# Altium footprint library TO254P483X1010X2035-3P.PcbLib: 1 footprints
Each footprint in its own frame and in the unit in brackets; x right, y up, seen from the top. Pads: shape width x height; smd on the part's side, far side on the other; paste and mask are expansions set on the pad; w line width, h text height; cw(c..) or ccw(c..) is an arc to the next point about the centre after c.
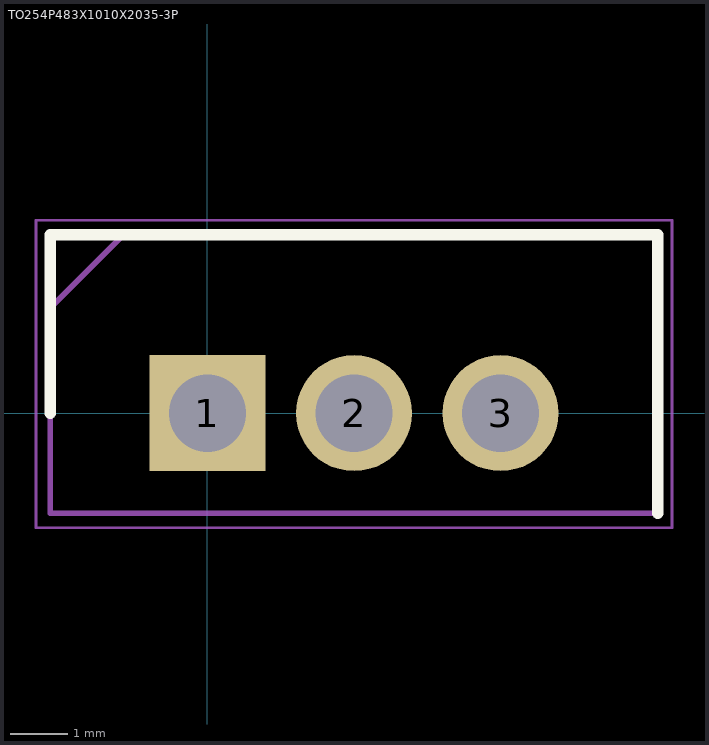
[diagram p0: the footprint, top view; thin cyan lines are the x and y axes]

## TO254P483X1010X2035-3P [mm]
pads (3):
  rect 2.01x2.01 / inner round 2.01 / far side rect 2.01x2.01 hole 1.34: 1(0,0)
  round 2.01 hole 1.34: 2(2.54,0) 3(5.08,0)
Top Overlay:
  lines w0.2: -2.725,0 -2.725,3.095 7.805,3.095 7.805,-1.735
Mechanical 15:
  lines w0.1: -2.725,1.825 -1.455,3.095 ; -2.725,-1.735 7.805,-1.735 7.805,3.095 -2.725,3.095 -2.725,-1.735
Mechanical 20:
  lines w0.05: -2.975,-1.985 8.055,-1.985 8.055,3.345 -2.975,3.345 -2.975,-1.985